# EAGLE library part ERL-35 (library trafo-smps)
TRANSFORMER
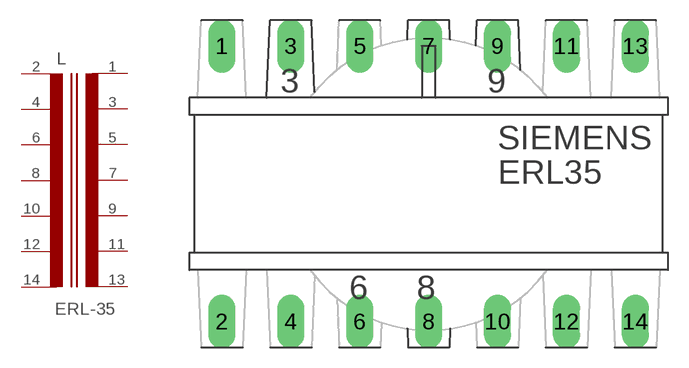
[diagram p6: symbol with the pads of ERL-35; footprint ERL-35]

Designator prefix L

## ERL-35  [ERL-35]
1  S1  pas
2  P2  pas
3  S3  pas
4  P4  pas
5  S5  pas
6  P6  pas
7  S7  pas
8  P8  pas
9  S9  pas
10  P10  pas
11  S11  pas
12  P12  pas
13  S13  pas
14  P14  pas

## Footprint ERL-35 (pad centres in mm)
TRANSFORMER
drill 1.321 long: 1 -15.24,10.16; 2 -15.24,-10.16; 3 -10.16,10.16; 4 -10.16,-10.16; 5 -5.08,10.16; 6 -5.08,-10.16; 7 0,10.16; 8 0,-10.16; 9 5.08,10.16; 10 5.08,-10.16; 11 10.16,10.16; 12 10.16,-10.16; 13 15.24,10.16; 14 15.24,-10.16